# Altium footprint library CREE-XP-E2.PcbLib: 1 footprints
Each footprint in its own frame and in the unit in brackets; x right, y up, seen from the top. Pads: shape width x height; smd on the part's side, far side on the other; paste and mask are expansions set on the pad; w line width, h text height; cw(c..) or ccw(c..) is an arc to the next point about the centre after c.
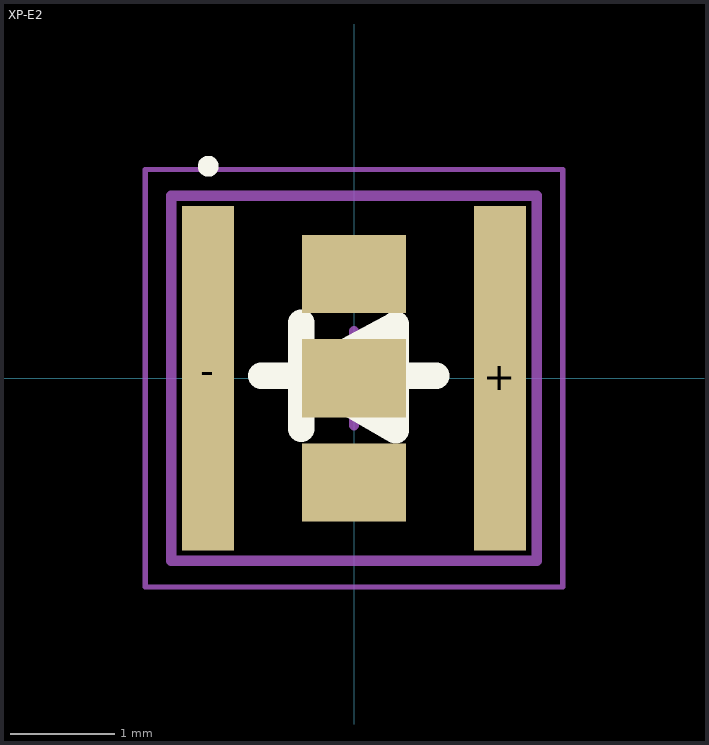
[diagram p0: the footprint, top view; thin cyan lines are the x and y axes]

## XP-E2 [mm] "Footprint"
height 2.26
pads (5):
  rect 0.5x3.3 smd: +(1.4,0) -(-1.4,0)
  rect 1x0.75 smd: ""(0,-1) ""(0,0) ""(0,1)
Top Overlay:
  circle w0.1: c-1.397,2.032 r0.05
  lines w0.254: -0.889,0.025 -0.508,0.025 ; -0.508,-0.483 -0.508,0.533 ; 0.406,0.025 0.787,0.025 ; -0.508,0.025 0.4,0.516 0.4,-0.5 -0.508,0.025
Mechanical 13:
  lines w0.1: -1.75,-1.75 -1.75,1.75 1.75,1.75 1.75,-1.75 -1.75,-1.75
Mechanical 15:
  lines w0.05: -2,-2 -2,2 2,2 2,-2 -2,-2
  lines w0.1: -0.45,0 0.45,0 ; 0,-0.45 0,0.45
3D body: height 2.26, standoff 0, extent -1.75,-1.75 1.75,1.75